# EAGLE library part SN74AVC4T774 (library m_ic-comm)
4-BIT DUAL-SUPPLY BUS TRANSCEIVER WITH CONFIGURABLE VOLTAGE TRANSLATION AND 3-STATE OUTPUTS Features Each Channel Has an Independent DIR Control Input Control Inputs VIH/VIL Levels Are Referenced to VCCA Voltage Fully Configurable Dual-Rail Design Allows Each Port to Operate Over the Full 1.2-V to 3.6-V Power-Supply Range I/Os Are 4.6-V Tolerant Ioff Supports Partial Power-Down-Mode Operation
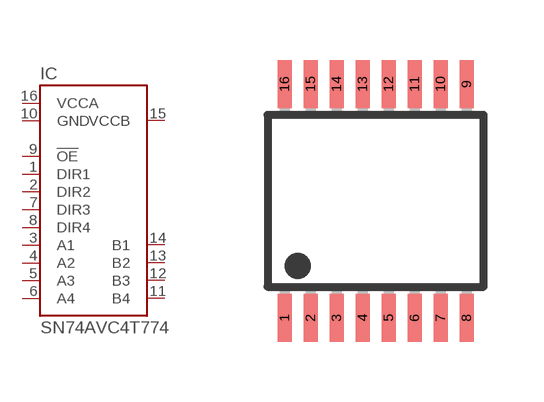
[diagram p2: symbol with the pads of TSSOP16; footprint TSSOP16]

Designator prefix IC

## SN74AVC4T774PW (MANUF: TI; PARTNUM: SN74AVC4T774___)  [TSSOP16]
1  DIR1
2  DIR2
3  A1
4  A2
5  A3
6  A4
7  DIR3
8  DIR4
9  !OE
10  GND
11  B4
12  B3
13  B2
14  B1
15  VCCB
16  VCCA

## Footprint TSSOP16 (pad centres in mm)
PW (R-PDSO-G8) Source: http://focus.ti.com/lit/ds/symlink/ads1271.pdf
smd 0.35 x 1.2: 1 -2.275,-2.925; 2 -1.625,-2.925; 3 -0.975,-2.925; 4 -0.325,-2.925; 5 0.325,-2.925; 6 0.975,-2.925; 7 1.625,-2.925; 8 2.275,-2.925; 9 2.275,2.925; 10 1.625,2.925; 11 0.975,2.925; 12 0.325,2.925; 13 -0.325,2.925; 14 -0.975,2.925; 15 -1.625,2.925; 16 -2.275,2.925